# Altium footprint library Clock.PcbLib: 1 footprints
Each footprint in its own frame and in the unit in brackets; x right, y up, seen from the top. Pads: shape width x height; smd on the part's side, far side on the other; paste and mask are expansions set on the pad; w line width, h text height; cw(c..) or ccw(c..) is an arc to the next point about the centre after c.
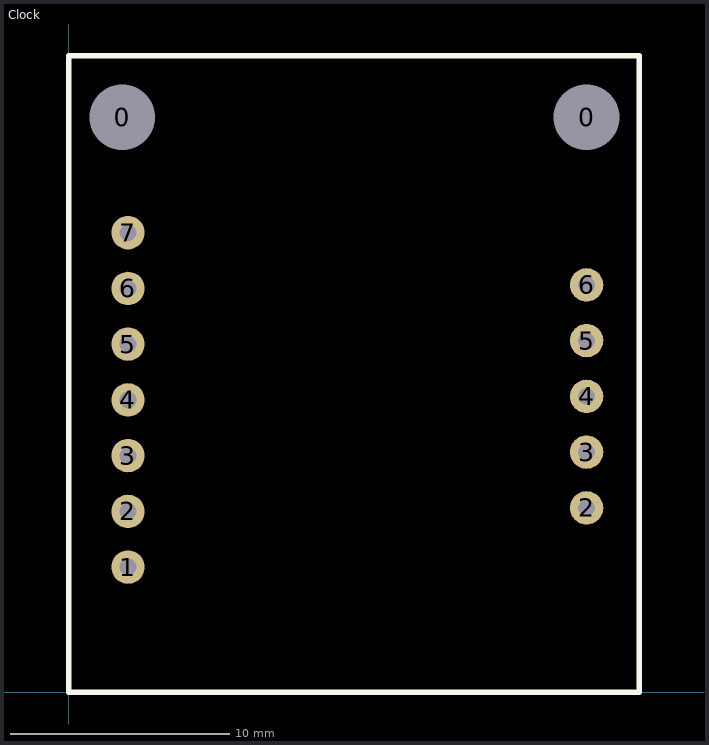
[diagram p0: the footprint, top view; thin cyan lines are the x and y axes]

## Clock [mil]
pads (14):
  round 60 hole 118.11: 0(96.06,1031.5) 0(929.13,1031.5)
  round 60 hole 30: 1(106.3,224.41) 2(106.3,324.41) 2(929.13,330.71) 3(106.3,424.41) 3(929.13,430.71) 4(106.3,524.41) 4(929.13,530.71) 5(106.3,624.41) 5(929.13,630.71) 6(106.3,724.41) 6(929.13,730.71) 7(106.3,824.41)
Top Overlay:
  lines w10: 0,0 0,1141.73 1023.62,1141.73 1023.62,0 0,0